# Altium footprint library MacroQMK.PcbLib: 22 footprints (part 1 of 2)
Each footprint in its own frame and in the unit in brackets; x right, y up, seen from the top. Pads: shape width x height; smd on the part's side, far side on the other; paste and mask are expansions set on the pad; w line width, h text height; cw(c..) or ccw(c..) is an arc to the next point about the centre after c.
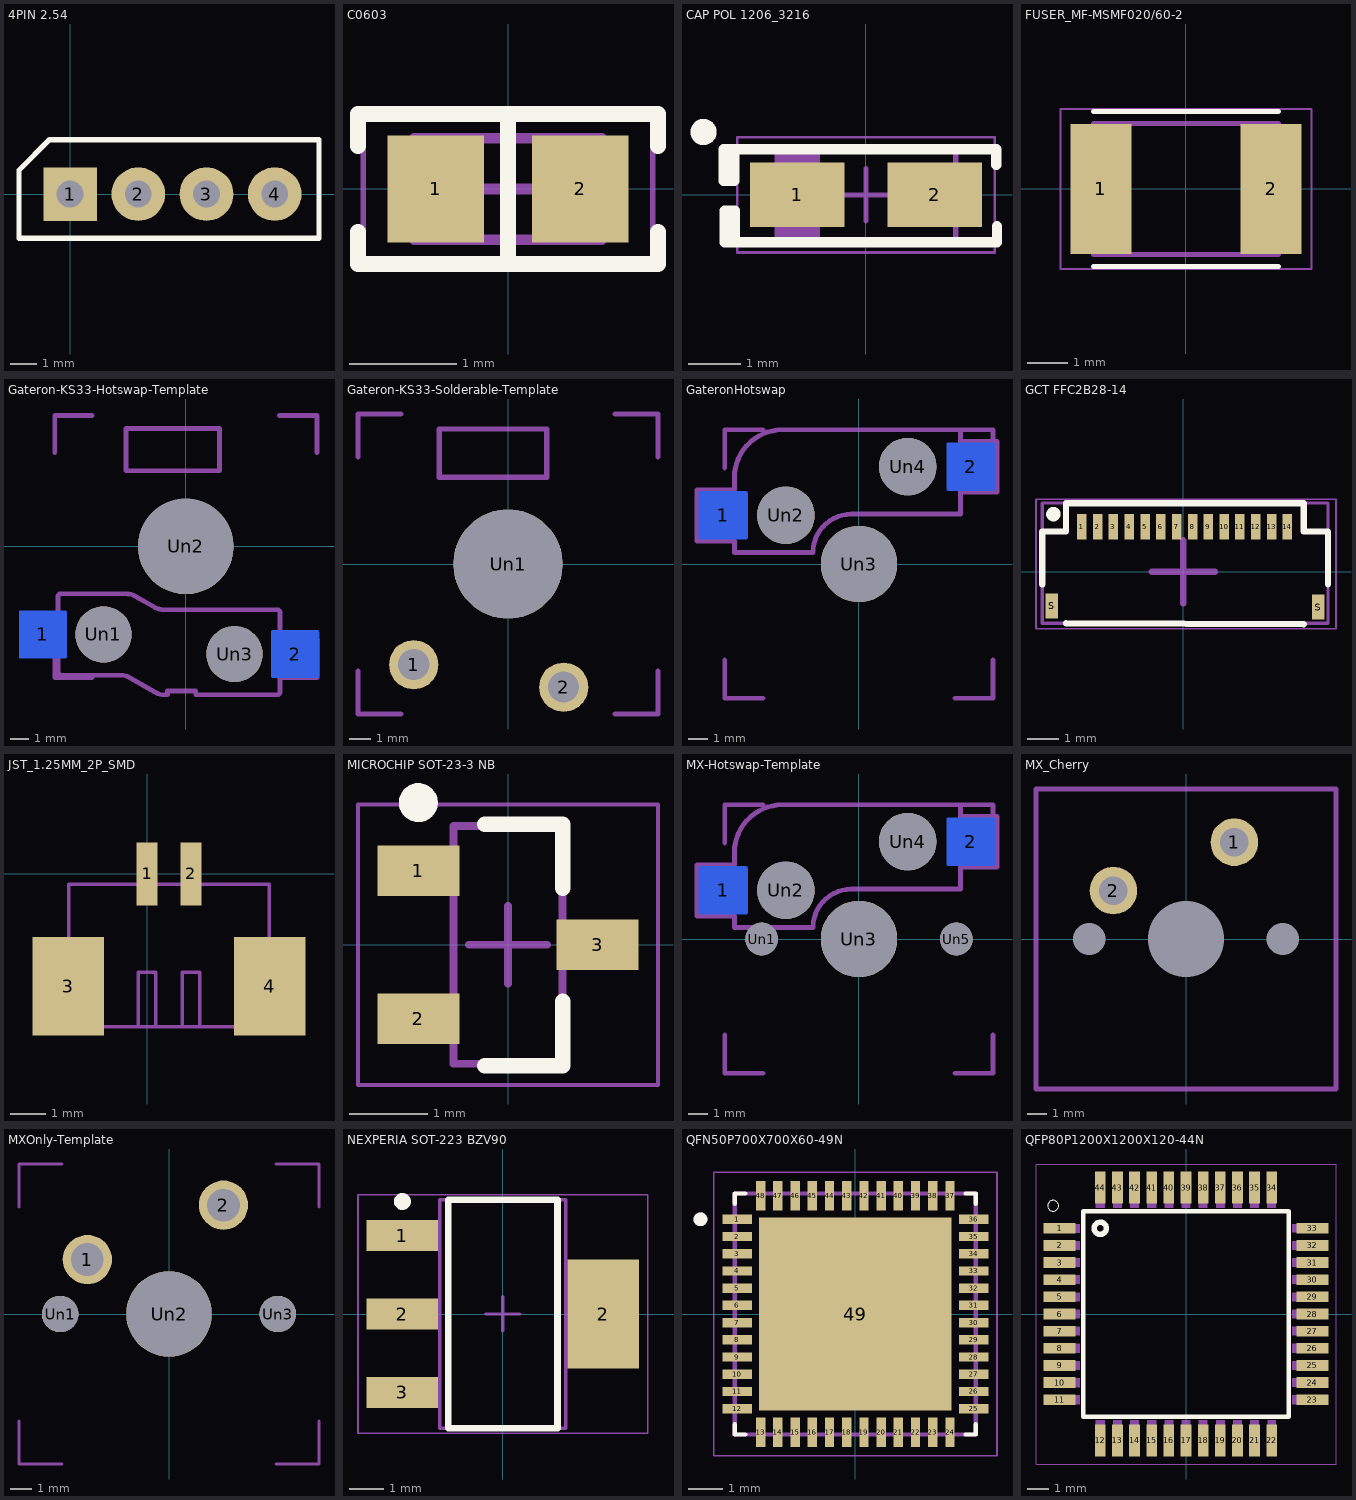
[diagram p0: the footprints below, top view; thin cyan lines are the x and y axes]

## 4PIN 2.54 [mm]
pads (4):
  rect 2x2 hole 1: 1(0,0)
  round 2 hole 1: 2(2.54,0) 3(5.08,0) 4(7.62,0)
Top Overlay:
  lines w0.2: -1.905,-1.651 -1.905,0.889 -0.762,2.032 9.271,2.032 9.271,-1.651 -1.905,-1.651

## C0603 [mm] "Chip Capacitor, 2-Leads, Body 1.60x0.80mm, IPC Medium Density"
height 0.89
pads (2):
  rect 0.9x1 smd: 1(-0.675,0) 2(0.675,0)
Top Overlay:
  lines w0.15: -1.4,-0.4 -1.4,-0.7 1.4,-0.7 1.4,-0.4 ; -1.4,0.4 -1.4,0.7 1.4,0.7 1.4,0.4 ; 0,-0.7 0,0.7
Mechanical 13:
  lines w0.1: -0.875,-0.475 0.875,-0.475 0.875,0.475 -0.875,0.475 -0.875,-0.475
Mechanical 15:
  lines w0.05: -1.35,-0.75 1.35,-0.75 1.35,0.75 -1.35,0.75 -1.35,-0.75
  lines w0.1: -0.475,0 0.475,0 ; 0,-0.475 0,0.475
3D body "0603 cap.STEP": height 0.82, standoff 0, extent -0.8,-0.412 0.8,0.412

## CAP POL 1206_3216 [mm] "Molded Capacitor, 2-Leads, Body 3.20x1.6mm, IPC Medium Density"
height 1.7
pads (2):
  rect 1.8x1.23 smd: 1(-1.31,0) 2(1.31,0)
Top Overlay:
  circle w0.25: c-3.1,1.2 r0.125
  rectangle: -2.7,-0.9 -2.55,-0.3
  rectangle: -2.717,0.273 -2.567,0.873
  lines w0.2: -2.517,0.873 -2.517,0.273 -2.717,0.273 -2.717,0.873 2.483,0.873 2.483,0.573 ; -2.5,-0.9 -2.5,-0.3 -2.7,-0.3 -2.7,-0.9 2.5,-0.9 2.5,-0.6
Mechanical 13:
  rectangle: -1.715,-0.85 -0.875,0.85
  lines w0.1: -1.7,-0.85 1.715,-0.85 1.715,0.85 -1.7,0.85 -1.7,-0.85
Mechanical 15:
  lines w0.05: -2.46,-1.1 -2.46,1.1 2.46,1.1 2.46,-1.1 -2.46,-1.1
  lines w0.1: -0.5,0 0.5,0 ; 0,-0.5 0,0.5
3D body "CAP TANT - 1206 - 1.7MM.step": height 1.7, standoff 0, extent -1.715,-0.85 1.715,0.85

## FUSER_MF-MSMF020/60-2 [mm]
pads (2):
  rect 1.5x3.2 smd: 1(-2.1,0) 2(2.1,0)
Top Overlay:
  lines w0.127: -2.275,-1.913 2.275,-1.913 ; -2.275,1.913 2.275,1.913
Mechanical 13:
  lines w0.127: -2.275,-1.62 2.275,-1.62 2.275,1.62 -2.275,1.62 -2.275,-1.62
Mechanical 15:
  lines w0.05: -3.1,-1.977 -3.1,1.977 3.1,1.977 3.1,-1.977 -3.1,-1.977
3D body "step_temp.STEP": height 0.85, standoff 0, extent -2.275,-1.62 2.275,1.62

## Gateron-KS33-Hotswap-Template [mm]
pads (5):
  rrect8% 2.55x2.55 smd far side: 1(-7.638,-4.7) 2(5.837,-5.75)
  round 3 hole 3: Un1(-4.4,-4.7) Un3(2.6,-5.75)
  round 5.1 hole 5.1: Un2(0,0)
Mechanical 2:
  lines w0.254: -7,-5 -7,-7 -5,-7 ; -7,5 -7,7 -5,7 ; 5,-7 7,-7 7,-5 ; 5,7 7,7 7,5
Mechanical 3:
  lines w0.254: -8.45,-5.55 -8.45,-3.85 -6.825,-3.85 -6.825,-2.675 cw(c-6.675,-2.675) -6.675,-2.525 -3.193,-2.525 cw(c-3.193,-3.525) -2.693,-2.659 -1.685,-3.241 ccw(c-1.185,-2.375) -1.185,-3.375 4.875,-3.375 cw(c4.875,-3.525) 5.025,-3.525 5.025,-4.9 6.65,-4.9 6.65,-6.6 5.025,-6.6 5.025,-7.775 cw(c4.875,-7.775) 4.875,-7.925 0.525,-7.925 0.525,-7.725 -0.975,-7.725 -0.975,-7.925 -1.138,-7.925 cw(c-1.138,-6.925) -1.638,-7.791 -2.993,-7.009 ccw(c-3.493,-7.875) -3.493,-6.875 -6.675,-6.875 cw(c-6.675,-6.725) -6.825,-6.725 -6.825,-5.55 -8.45,-5.55
Mechanical 7:
  lines w0.254: -3.2,4.05 -3.2,6.3 1.8,6.3 1.8,4.05 -3.2,4.05

## Gateron-KS33-Solderable-Template [mm]
pads (3):
  round 2.3 hole 1.45: 1(-4.4,-4.7) 2(2.6,-5.75)
  round 5.1 hole 5.1: Un1(0,0)
Mechanical 2:
  lines w0.254: -7,-5 -7,-7 -5,-7 ; -7,5 -7,7 -5,7 ; 5,-7 7,-7 7,-5 ; 5,7 7,7 7,5
Mechanical 7:
  lines w0.254: -3.2,4.05 1.8,4.05 1.8,6.3 -3.2,6.3 -3.2,4.05

## GateronHotswap [mm]
pads (5):
  rrect8% 2.55x2.5 smd far side: 1(-7.085,2.54) 2(5.842,5.08)
  round 3 hole 3: Un2(-3.81,2.54) Un4(2.54,5.08)
  round 3.988 hole 3.988: Un3(0,0)
Mechanical 2:
  lines w0.254: -7,-5 -7,-7 -5,-7 ; -7,5 -7,7 -5,7 ; 5,-7 7,-7 7,-5 ; 5,7 7,7 7,5
Mechanical 3:
  lines w0.254: -8.45,1.2 -8.45,3.875 -6.5,3.875 -6.5,4.5 cw(c-4,4.5) -4,7 5.3,7 5.3,6.4 7.2,6.4 7.2,3.75 5.3,3.75 5.3,2.6 -0.4,2.6 ccw(c-0.4,0.6) -2.4,0.6 -6.5,0.6 -6.5,1.2 -8.45,1.2
3D body "MX-Hotswap-Socket.step": height 0.8, standoff -2.25, extent -8.139,0.841 6.361,6.731

## GCT FFC2B28-14 [mm] "14 Position FFC, FPC Connector Contacts, Top and Bottom 0.020\" (0.50mm) Surface Mount, Right Angle"
height 1
pads (16):
  rect 0.3x0.8 smd: 1(-3.21,1.425) 2(-2.71,1.425) 3(-2.21,1.425) 4(-1.71,1.425) 5(-1.21,1.425) 6(-0.71,1.425) 7(-0.21,1.425) 8(0.29,1.425) 9(0.79,1.425) 10(1.29,1.425) 11(1.79,1.425) 12(2.29,1.425) 13(2.79,1.425) 14(3.29,1.425)
  rect 0.4x0.8 smd: S(-4.16,-1.075) S(4.267,-1.11)
Top Overlay:
  circle w0.254: c-4.11,1.825 r0.1
  lines w0.2: -4.46,-0.4 -4.46,1.275 -3.71,1.275 -3.71,2.175 3.81,2.175 3.81,1.275 4.572,1.275 4.572,-0.4 ; -3.71,-1.625 3.81,-1.651
Mechanical 13:
  lines w0.1: -4.46,-1.625 4.572,-1.625 4.572,2.175 -4.46,2.175 -4.46,-1.625
Mechanical 15:
  lines w0.05: -4.66,-1.8 4.826,-1.8 4.826,2.3 -4.66,2.3 -4.66,-1.8
  lines w0.2: -1,0 1,0 ; 0,-1 0,1
3D body: height 0.25, standoff 0, extent -4.46,-1.625 4.572,1.625

## JST_1.25MM_2P_SMD [mm]
pads (4):
  rect 0.6x1.8 smd mask+0.102: 1(0,0) 2(1.25,0)
  rect 2.032x2.8 smd mask+0.102: 3(-2.24,-3.2) 4(3.49,-3.2)
Mechanical 6:
  lines w0.1: -0.25,-4.3 -0.25,-2.8 0.25,-2.8 0.25,-4.3 ; 1,-4.3 1,-2.8 1.5,-2.8 1.5,-4.3 ; -2.225,-4.35 3.475,-4.35 3.475,-0.3 -2.225,-0.3 -2.225,-4.35

## MICROCHIP SOT-23-3 NB [mm] "SOT23, 3-Leads, Body 2.86x2.37mm, Pitch 0.95mm, IPC Medium Density"
height 1.12
pads (3):
  rect 1.05x0.65 smd: 1(-1.15,0.95) 2(-1.15,-0.95) 3(1.15,0)
Top Overlay:
  circle w0.25: c-1.15,1.825 r0.125
  lines w0.2: -0.3,-1.55 0.7,-1.55 0.7,-0.725 ; -0.3,1.55 0.7,1.55 0.7,0.725
Mechanical 13:
  lines w0.1: -0.7,-1.525 0.7,-1.525 0.7,1.525 -0.7,1.525 -0.7,-1.525
Mechanical 15:
  lines w0.05: -1.925,-1.8 1.925,-1.8 1.925,1.8 -1.925,1.8 -1.925,-1.8
  lines w0.1: -0.5,0 0.5,0 ; 0,-0.5 0,0.5
3D body "sot-23-3-microchip.STEP": height 1.22, standoff 0, extent -1.22,-1.45 1.221,1.45

## MX-Hotswap-Template [mm]
pads (7):
  rrect8% 2.55x2.5 smd far side: 1(-7.085,2.54) 2(5.842,5.08)
  round 1.702 hole 1.702: Un1(-5.08,0) Un5(5.08,0)
  round 3 hole 3: Un2(-3.81,2.54) Un4(2.54,5.08)
  round 3.988 hole 3.988: Un3(0,0)
Mechanical 2:
  lines w0.254: -7,-5 -7,-7 -5,-7 ; -7,5 -7,7 -5,7 ; 5,-7 7,-7 7,-5 ; 5,7 7,7 7,5
Mechanical 3:
  lines w0.254: -8.45,1.2 -8.45,3.875 -6.5,3.875 -6.5,4.5 cw(c-4,4.5) -4,7 5.3,7 5.3,6.4 7.2,6.4 7.2,3.75 5.3,3.75 5.3,2.6 -0.4,2.6 ccw(c-0.4,0.6) -2.4,0.6 -6.5,0.6 -6.5,1.2 -8.45,1.2
3D body "MX-Hotswap-Socket.step": height 0.8, standoff -2.25, extent -8.139,0.841 6.361,6.731

## MX_Cherry [mm] "Cherry Key Pad with LED"
pads (5):
  round 2.5 hole 1.5: 1(2.54,5.08) 2(-3.81,2.54)
  round 0 hole 1.702: 6(-5.08,0) 6(5.08,0)
  round 0 hole 3.988: Hole(0,0)
Mechanical 1:
  lines w0.254: -7.874,-7.874 7.874,-7.874 7.874,7.874 -7.874,7.874 -7.874,-7.874
3D body "MX .STEP": height 14.9, standoff -4, extent -7.747,-7.8 7.853,7.8

## MXOnly-Template [mil]
pads (5):
  round 90.55 hole 60: 1(-150,100) 2(100,200)
  round 67 hole 67: Un1(-200,0) Un3(200,0)
  round 157 hole 157: Un2(0,0)
Mechanical 2:
  lines w5.91: -275.59,-196.85 -275.59,-275.59 -196.85,-275.59 ; -275.59,196.85 -275.59,275.59 -196.85,275.59 ; 196.85,-275.59 275.59,-275.59 275.59,-196.85 ; 196.85,275.59 275.59,275.59 275.59,196.85

## NEXPERIA SOT-223 BZV90 [mm] "SOT223, 4-Leads, Body 6.50x7.00mm (avg), Pitch 2.30mm, IPC Medium Density"
height 1.8
pads (4):
  rect 2.1x0.9 smd: 1(-2.95,2.3) 2(-2.95,0) 3(-2.95,-2.3)
  rect 2.1x3.2 smd: 2(2.95,0)
Top Overlay:
  circle w0.25: c-2.95,3.3 r0.125
  lines w0.2: -1.6,-3.35 1.6,-3.35 1.6,3.35 -1.6,3.35 -1.6,-3.35
Mechanical 13:
  lines w0.1: -1.85,-3.35 1.85,-3.35 1.85,3.35 -1.85,3.35 -1.85,-3.35
Mechanical 15:
  lines w0.05: -4.25,-3.5 4.25,-3.5 4.25,3.5 -4.25,3.5 -4.25,-3.5
  lines w0.1: -0.5,0 0.5,0 ; 0,-0.5 0,0.5
3D body "NEXPERIA SOT-223 BZV90.step": height 1.8, standoff 0, extent -3.5,-3.35 3.5,3.35

## QFN50P700X700X60-49N [mm]
height 0.6
pads (49):
  rect 0.86x0.27 smd mask+0.05: 1(-3.435,2.75) 2(-3.435,2.25) 3(-3.435,1.75) 4(-3.435,1.25) 5(-3.435,0.75) 6(-3.435,0.25) 7(-3.435,-0.25) 8(-3.435,-0.75) 9(-3.435,-1.25) 10(-3.435,-1.75) 11(-3.435,-2.25) 12(-3.435,-2.75) 25(3.435,-2.75) 26(3.435,-2.25) 27(3.435,-1.75) 28(3.435,-1.25) 29(3.435,-0.75) 30(3.435,-0.25) 31(3.435,0.25) 32(3.435,0.75) 33(3.435,1.25) 34(3.435,1.75) 35(3.435,2.25) 36(3.435,2.75)
  rect 0.27x0.86 smd mask+0.05: 13(-2.75,-3.435) 14(-2.25,-3.435) 15(-1.75,-3.435) 16(-1.25,-3.435) 17(-0.75,-3.435) 18(-0.25,-3.435) 19(0.25,-3.435) 20(0.75,-3.435) 21(1.25,-3.435) 22(1.75,-3.435) 23(2.25,-3.435) 24(2.75,-3.435) 37(2.75,3.435) 38(2.25,3.435) 39(1.75,3.435) 40(1.25,3.435) 41(0.75,3.435) 42(0.25,3.435) 43(-0.25,3.435) 44(-0.75,3.435) 45(-1.25,3.435) 46(-1.75,3.435) 47(-2.25,3.435) 48(-2.75,3.435)
  rect 5.6x5.6 smd paste-4 mask+0.05: 49(0,0)
Top Overlay:
  circle w0.2: c-4.5,2.75 r0.1
  lines w0.127: -3.5,-3.2 -3.5,-3.5 -3.2,-3.5 ; -3.5,3.2 -3.5,3.5 -3.2,3.5 ; 3.2,-3.5 3.5,-3.5 3.5,-3.2 ; 3.2,3.5 3.5,3.5 3.5,3.2
Top Paste:
  region: 2.285,-2.285 0.515,-2.285 0.515,-0.515 2.285,-0.515
  region: -0.515,-2.285 -2.285,-2.285 -2.285,-0.515 -0.515,-0.515
  region: 2.285,0.515 0.515,0.515 0.515,2.285 2.285,2.285
  region: -0.515,0.515 -2.285,0.515 -2.285,2.285 -0.515,2.285
Mechanical 13:
  circle w0.2: c-4.5,2.75 r0.1
  lines w0.127: -3.5,-3.5 -3.5,3.5 3.5,3.5 3.5,-3.5 -3.5,-3.5
Mechanical 15:
  lines w0.05: -4.115,-4.115 -4.115,4.115 4.115,4.115 4.115,-4.115 -4.115,-4.115
3D body "step_temp.STEP": height 0.6, standoff 0, extent -3.5,-3.5 3.5,3.5

## QFP80P1200X1200X120-44N [mm]
pads (44):
  rect 1.5x0.5 smd: 1(-5.9,4) 2(-5.9,3.2) 3(-5.9,2.4) 4(-5.9,1.6) 5(-5.9,0.8) 6(-5.9,0) 7(-5.9,-0.8) 8(-5.9,-1.6) 9(-5.9,-2.4) 10(-5.9,-3.2) 11(-5.9,-4) 23(5.9,-4) 24(5.9,-3.2) 25(5.9,-2.4) 26(5.9,-1.6) 27(5.9,-0.8) 28(5.9,0) 29(5.9,0.8) 30(5.9,1.6) 31(5.9,2.4) 32(5.9,3.2) 33(5.9,4)
  rect 0.5x1.5 smd: 12(-4,-5.9) 13(-3.2,-5.9) 14(-2.4,-5.9) 15(-1.6,-5.9) 16(-0.8,-5.9) 17(0,-5.9) 18(0.8,-5.9) 19(1.6,-5.9) 20(2.4,-5.9) 21(3.2,-5.9) 22(4,-5.9) 34(4,5.9) 35(3.2,5.9) 36(2.4,5.9) 37(1.6,5.9) 38(0.8,5.9) 39(0,5.9) 40(-0.8,5.9) 41(-1.6,5.9) 42(-2.4,5.9) 43(-3.2,5.9) 44(-4,5.9)
Top Overlay:
  circle w0.254: c-4,4 r0.283
  circle w0: c-6.2,5.05 r0.254
  lines w0.203: -4.8,-4.8 4.8,-4.8 4.8,4.8 -4.8,4.8 -4.8,-4.8
Mechanical 13:
  drawing of 44 lines, arcs and shapes, not listed
Mechanical 15:
  lines w0.05: -7,-7 7,-7 7,7 -7,7 -7,-7
3D body "step_temp.STEP": height 1.12, standoff -0.08, extent -6,-6 6,6